# EAGLE library part 750841153 (library wurth_electronics_midcom_inc_v2-1)
Package Style: EPT18 Mounting: SMD Pins: 9 pins Bobbin: 070-5743 Best pinouts for production vary per application. Please contact Wurth Electronics Midcom, Inc. for assistance with your custom design. Website: Wurth Electronics Midcom <http://www.we-online.com/midcom> Contact us Wurth Electronics Midcom, Inc. 121 Airport Dr. Watertown, SD 57201 Phone: (605) 886-4385 Fax: (605) 886-4486 E-Mail: midcom@we-online.com
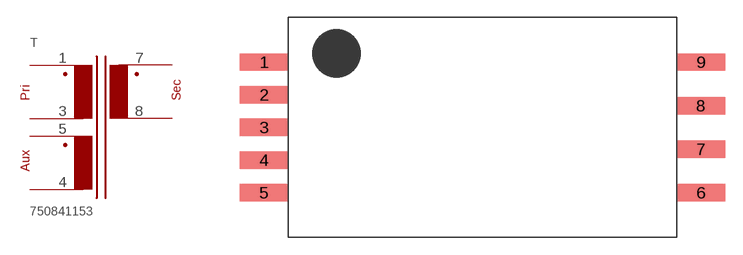
[diagram p328: symbol with the pads of EPT18_SMD_H_9PIN_(5743); footprint EPT18_SMD_H_9PIN_(5743)]

Designator prefix T

## 750841153  [EPT18_SMD_H_9PIN_(5743)]
1  1  pas
3  3  pas
4  4  pas
5  5  pas
7  7  pas
8  8  pas

## Footprint EPT18_SMD_H_9PIN_(5743) (pad centres in mm)
Package Style: EPT18 Mounting: SMD Pins: 9 Bobbin: 070-5743
smd 4.166 x 1.499: 1 -18.828,5.639; 2 -18.828,2.819; 3 -18.828,0; 4 -18.828,-2.819; 5 -18.828,-5.639; 6 18.828,-5.639; 7 18.828,-1.88; 8 18.828,1.88; 9 18.828,5.639